# Altium footprint library WateringSystem_Library.PcbLib: 41 footprints (part 2 of 3)
Each footprint in its own frame and in the unit in brackets; x right, y up, seen from the top. Pads: shape width x height; smd on the part's side, far side on the other; paste and mask are expansions set on the pad; w line width, h text height; cw(c..) or ccw(c..) is an arc to the next point about the centre after c.
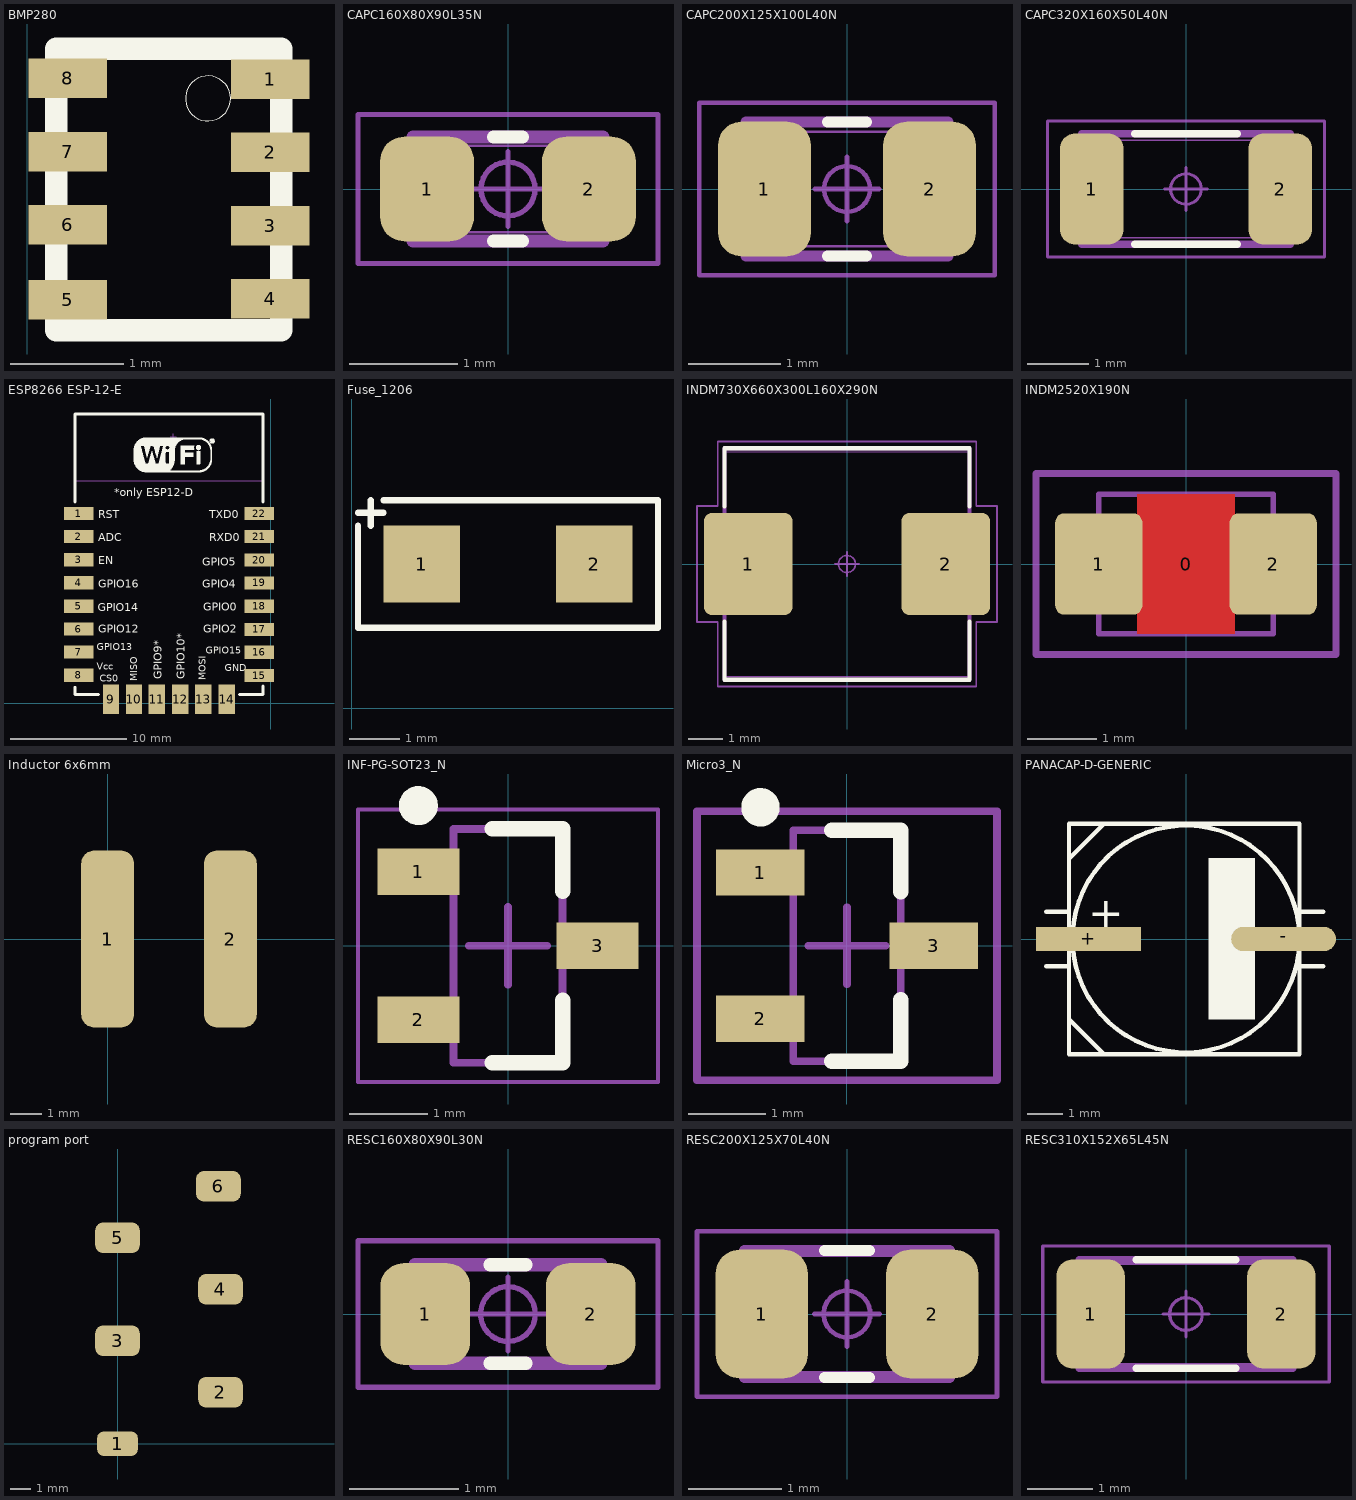
[diagram p1: the footprints below, top view; thin cyan lines are the x and y axes]

## BMP280 [mm]
pads (8):
  rect 0.7x0.35 smd: 1(2.156,2.458) 2(2.156,1.808) 3(2.156,1.158) 4(2.156,0.508) 5(0.358,0.501) 6(0.358,1.164) 7(0.358,1.814) 8(0.358,2.464)
Top Overlay:
  circle w0.01: c1.603,2.286 r0.2
  lines w0.2: 0.254,0.229 2.254,0.229 2.254,2.729 0.254,2.729 0.254,0.229

## CAPC160X80X90L35N [mm] "Capacitor, Chip; 0603, 1.60 mm L X 0.80 mm W X 0.90 mm H body"
height 0.9
pads (2):
  rrect51% 0.87x0.97 smd: 1(-0.75,0) 2(0.75,0)
Top Overlay:
  lines w0.12: -0.135,-0.48 0.135,-0.48 ; -0.135,0.48 0.135,0.48
Mechanical 11:
  lines w0.12: -0.88,-0.48 0.88,-0.48 0.88,0.48 -0.88,0.48 -0.88,-0.48
Mechanical 12:
  lines w0.025: -0.8,-0.4 0.8,-0.4 ; -0.8,-0.4 -0.8,0.4 ; -0.8,-0.4 -0.8,0.4 ; -0.8,-0.4 -0.45,-0.4 -0.45,0.4 -0.8,0.4 ; -0.8,0.4 0.8,0.4 ; 0.8,-0.4 0.8,0.4 ; 0.8,-0.4 0.45,-0.4 0.45,0.4 0.8,0.4 ; 0.8,-0.4 0.8,0.4
Mechanical 15:
  circle w0.05: c0,0 r0.25
  lines w0.05: -0.345,0 0.345,0 ; 0,-0.345 0,0.345 ; -1.39,-0.69 1.39,-0.69 1.39,0.69 -1.39,0.69 -1.39,-0.69
3D body: height 0.25, standoff 0, extent 0,0 0.254,0.254
3D body "CAPC160X80X90L35.STEP": height 0.9, standoff 0, extent -0.8,-0.4 0.8,0.4

## CAPC200X125X100L40N [mm] "0805"
pads (2):
  rrect50% 1.01x1.47 smd: 1(-0.9,0) 2(0.9,0)
Top Overlay:
  lines w0.12: -0.215,-0.73 0.215,-0.73 ; -0.215,0.73 0.215,0.73
Mechanical 11:
  lines w0.12: -1.1,-0.73 -1.1,0.73 1.1,0.73 1.1,-0.73 -1.1,-0.73
Mechanical 12:
  lines w0.025: -1,-0.625 -0.6,-0.625 -0.6,0.625 -1,0.625 ; -1,-0.625 -1,0.625 ; -1,-0.625 -1,0.625 ; -1,-0.625 1,-0.625 ; -1,0.625 1,0.625 ; 1,-0.625 1,0.625 ; 1,-0.625 0.6,-0.625 0.6,0.625 1,0.625 ; 1,-0.625 1,0.625
Mechanical 15:
  circle w0.05: c0,0 r0.25
  lines w0.05: -0.35,0 0.35,0 ; 0,-0.35 0,0.35 ; -1.61,-0.94 -1.61,0.94 1.61,0.94 1.61,-0.94 -1.61,-0.94
3D body "CAPC200X125X100L40.STEP": height 1, standoff 0, extent -1,-0.625 1,0.625
3D body: height 0.25, standoff 0, extent 0,0 0.254,0.254

## CAPC320X160X50L40N [mm] "Capacitor, Chip; 1206, 3.20 mm L X 1.60 mm W X 0.50 mm H body"
height 0.5
pads (2):
  rrect48% 1.04x1.82 smd: 1(-1.54,0) 2(1.54,0)
Top Overlay:
  lines w0.12: -0.84,-0.9 0.84,-0.9 ; -0.84,0.9 0.84,0.9
Mechanical 11:
  lines w0.12: -1.7,-0.9 1.7,-0.9 1.7,0.9 -1.7,0.9 -1.7,-0.9
Mechanical 12:
  lines w0.025: -1.6,-0.8 1.6,-0.8 ; -1.6,-0.8 -1.6,0.8 ; -1.6,-0.8 -1.6,0.8 ; -1.6,-0.8 -1.2,-0.8 -1.2,0.8 -1.6,0.8 ; -1.6,0.8 1.6,0.8 ; 1.6,-0.8 1.6,0.8 ; 1.6,-0.8 1.2,-0.8 1.2,0.8 1.6,0.8 ; 1.6,-0.8 1.6,0.8
Mechanical 15:
  circle w0.05: c0,0 r0.25
  lines w0.05: -0.35,0 0.35,0 ; 0,-0.35 0,0.35 ; -2.26,-1.11 2.26,-1.11 2.26,1.11 -2.26,1.11 -2.26,-1.11
3D body: height 0.25, standoff 0, extent 0,0 0.254,0.254
3D body "CAPC320X160X50L40.STEP": height 0.5, standoff 0, extent -1.6,-0.8 1.6,0.8

## ESP8266 ESP-12-E [mil]
pads (22):
  rect 100x45 smd: 1(-653,646) 2(-653,568) 3(-653,489) 4(-653,411) 5(-653,331) 6(-653,253) 7(-653,175) 8(-653,96) 15(-38,95) 16(-38,174) 17(-38,252) 18(-39,331) 19(-39,410) 20(-39,488) 21(-39,568) 22(-39,646)
  rect 55x100 smd: 9(-543,14) 10(-465,14) 11(-387,14) 12(-307,14) 13(-229,14) 14(-149,14)
Top Overlay:
  drawing of 1267 lines, arcs and shapes, not listed
  text "*only ESP12-D" at -531.5,704.72 h27.56
  text "TXD0" at -208.66,629.92 h27.56
  text "RXD0" at -208.66,551.18 h27.56
  text "GPIO5" at -232.28,468.5 h27.56
  text "GPIO4" at -232.28,393.7 h27.56
  text "GPIO0" at -228.35,314.96 h27.56
  text "GPIO2" at -228.35,240.16 h27.56
  text "GPIO15" at -220.47,169.29 h23.62
  text "GND" at -155.3,109.17 h23.62
  text "MOSI" at -220.47,78.74 h23.62
  text "GPIO10*" at -291.34,82.68 h27.56
  text "GPIO9*" at -370.08,82.68 h27.56
  text "CS0" at -580.5,73.74 h23.62
  text "Vcc" at -590.55,114.17 h23.62
  text "GPIO13" at -590.55,181.1 h23.62
  text "GPIO12" at -586.61,240.16 h27.56
  text "GPIO14" at -588.37,313.9 h27.56
  text "GPIO16" at -586.61,393.7 h27.56
  text "EN" at -587,474 h27.56
  text "ADC" at -586.61,551.18 h27.56
  text "RST" at -586.61,629.92 h27.56
  text "MISO" at -452.76,74.8 h23.62
Mechanical 13:
  lines w2: -662.96,757.97 -22.96,757.97
Mechanical 15:
  lines w3.94: -341,907.92 -321,907.92 ; -331,897.92 -331,917.92
3D body "User Library-ESP_12_E.STEP": height 85.7, standoff -1.17, extent -661,36.56 -31.08,981.44

## Fuse_1206 [mil]
pads (2):
  rect 60x60 smd: 1(55,113) 2(190,113)
Top Overlay:
  lines w5: 5,143 5,63 240,63 240,163 25,163 ; 5,153 25,153 ; 15,143 15,163

## INDM730X660X300L160X290N [mm] "Inductor, Molded Body; 7.20 mm L X 6.60 mm W X 3.00 mm H body"
height 3
pads (2):
  rrect19% 2.61x3.01 smd: 1(-2.9,0) 2(2.9,0)
Top Overlay:
  lines w0.12: -3.6,-1.685 -3.6,-3.4 3.6,-3.4 3.6,-1.685 ; -3.6,1.685 -3.6,3.4 3.6,3.4 3.6,1.685
Mechanical 11:
  lines w0.12: -3.6,-3.4 -3.6,3.4 3.6,3.4 3.6,-3.4 -3.6,-3.4
Mechanical 12:
  lines w0.025: -3.65,-1.45 -2.05,-1.45 -2.05,1.45 -3.65,1.45 -3.65,-1.45 ; -3.6,-3.3 -3.6,3.3 3.6,3.3 3.6,-3.3 -3.6,-3.3 ; 2.05,-1.45 2.05,1.45 3.65,1.45 3.65,-1.45 2.05,-1.45
Mechanical 15:
  circle w0.05: c0,0 r0.25
  lines w0.05: -0.35,0 0.35,0 ; 0,-0.35 0,0.35 ; -4.405,-1.705 -4.405,1.705 -3.8,1.705 -3.8,3.6 3.8,3.6 3.8,1.705 4.405,1.705 4.405,-1.705 3.8,-1.705 3.8,-3.6 -3.8,-3.6 -3.8,-1.705 -4.405,-1.705
3D body: height 0.25, standoff 0, extent 0,0 0.254,0.254
3D body "INDM730X660X300L160X290.STEP": height 3, standoff 0, extent -3.65,-3.3 3.65,3.3

## INDM2520X190N [mm]
pads (3):
  round 0.508 on Mech15: 0(0,0)
  rrect20% 1.25x1.45 smd: 1(-1.25,0) 2(1.25,0)
Top Layer:
  pour cut-out: -0.7,1 0.7,1 0.7,-1 -0.7,-1
Mechanical 13:
  lines w0.076: -1.25,-1 1.25,-1 1.25,1 -1.25,1 -1.25,-1
Mechanical 15:
  lines w0.1: -2.15,-1.3 2.15,-1.3 2.15,1.3 -2.15,1.3 -2.15,-1.3
3D body "INDM2520X190N.STEP": height 1.79, standoff -0.01, extent -1.25,-1 1.25,1

## Inductor 6x6mm [mm]
pads (2):
  rrect50% 1.7x5.7 smd: 1(0,0) 2(3.95,0)

## INF-PG-SOT23_N [mm]
pads (3):
  rect 1.05x0.6 smd: 1(-1.15,0.95) 2(-1.15,-0.95) 3(1.15,0)
Top Overlay:
  circle w0.25: c-1.15,1.8 r0.125
  lines w0.2: -0.2,-1.5 0.7,-1.5 0.7,-0.7 ; -0.2,1.5 0.7,1.5 0.7,0.7
Mechanical 13:
  lines w0.1: -0.7,-1.5 0.7,-1.5 0.7,1.5 -0.7,1.5 -0.7,-1.5
Mechanical 15:
  lines w0.05: -1.925,-1.75 1.925,-1.75 1.925,1.75 -1.925,1.75 -1.925,-1.75
  lines w0.1: -0.5,0 0.5,0 ; 0,-0.5 0,0.5
3D body: height 1.1, standoff 0.1, extent -0.7,-1.5 0.7,1.5

## Micro3_N [mm]
pads (3):
  rect 1.15x0.6 smd: 1(-1.125,0.95) 2(-1.125,-0.95) 3(1.125,0)
Top Overlay:
  circle w0.25: c-1.125,1.8 r0.125
  lines w0.2: -0.2,-1.5 0.7,-1.5 0.7,-0.7 ; -0.2,1.5 0.7,1.5 0.7,0.7
Mechanical 13:
  lines w0.1: -0.7,-1.5 0.7,-1.5 0.7,1.5 -0.7,1.5 -0.7,-1.5
Mechanical 15:
  lines w0.1: -0.5,0 0.5,0 ; 0,-0.5 0,0.5 ; -1.95,-1.75 1.95,-1.75 1.95,1.75 -1.95,1.75 -1.95,-1.75
3D body: height 1.12, standoff 0, extent -0.7,-1.5 0.7,1.5

## PANACAP-D-GENERIC [mm]
pads (2):
  rect 3x0.7 smd: +(-2.794,0)
  oval 3x0.7 smd: -(2.794,0)
Top Overlay:
  circle w0.127: c0,0 r3.25
  rectangle: 0.646,-2.3 1.971,2.325
  lines w0.127: -4,-0.775 -3.35,-0.775 ; -4,0.775 -3.35,0.775 ; -3.35,-2.65 -3.35,0 ; -3.35,-2.3 -2.35,-3.3 ; -3.35,2.3 -2.35,3.3 ; 3.25,-0.775 3.925,-0.775 ; 3.25,0.775 3.925,0.775 ; -3.35,-3.3 3.25,-3.3 3.25,0 3.25,3.3 -3.35,3.3 -3.35,0 ; -3.35,-3.3 -3.35,-3.3 ; -3.35,-3.3 -3.35,0
  text "+" at -2.8,0.325 h0.89
3D body "User Library-ALU-D.STEP": height 5.4, standoff 0, extent -3.5,-3.3 3.5,3.3

## program port [mm]
pads (6):
  rrect50% 2x1.2 smd: 1(0,0)
  rrect50% 2.2x1.5 smd: 2(5.08,2.54) 3(0,5.08) 4(5.08,7.62) 5(0,10.16) 6(4.98,12.7)

## RESC160X80X90L30N [mm] "Resistor, Chip; 0603, 1.60 mm L X 0.80 mm W X 0.90 mm H body"
height 0.9
pads (2):
  rrect51% 0.82x0.93 smd: 1(-0.755,0) 2(0.755,0)
Top Overlay:
  lines w0.12: -0.165,-0.45 0.165,-0.45 ; -0.165,0.45 0.165,0.45
Mechanical 11:
  lines w0.12: -0.85,-0.45 -0.85,0.45 0.85,0.45 0.85,-0.45 -0.85,-0.45
Mechanical 12:
  lines w0.025: -0.8,-0.4 -0.5,-0.4 -0.5,0.4 -0.8,0.4 ; -0.8,-0.4 -0.8,0.4 ; -0.8,-0.4 -0.8,0.4 ; -0.8,-0.4 0.8,-0.4 ; -0.8,0.4 0.8,0.4 ; 0.8,-0.4 0.8,0.4 ; 0.8,-0.4 0.5,-0.4 0.5,0.4 0.8,0.4 ; 0.8,-0.4 0.8,0.4
Mechanical 15:
  circle w0.05: c0,0 r0.25
  lines w0.05: -0.335,0 0.335,0 ; 0,-0.335 0,0.335 ; -1.37,-0.67 -1.37,0.67 1.37,0.67 1.37,-0.67 -1.37,-0.67
3D body "RESC160X80X90L30.STEP": height 0.9, standoff 0, extent -0.8,-0.4 0.8,0.4

## RESC200X125X70L40N [mm] "Resistor, Chip; 0805, 2.00 mm L X 1.25 mm W X 0.70 mm H body"
height 0.7
pads (2):
  rrect51% 0.99x1.38 smd: 1(-0.915,0) 2(0.915,0)
Top Overlay:
  lines w0.12: -0.24,-0.68 0.24,-0.68 ; -0.24,0.68 0.24,0.68
Mechanical 11:
  lines w0.12: -1.1,-0.68 -1.1,0.68 1.1,0.68 1.1,-0.68 -1.1,-0.68
Mechanical 12:
  lines w0.025: -1,-0.625 -0.6,-0.625 -0.6,0.625 -1,0.625 ; -1,-0.625 -1,0.625 ; -1,-0.625 -1,0.625 ; -1,-0.625 1,-0.625 ; -1,0.625 1,0.625 ; 1,-0.625 1,0.625 ; 1,-0.625 0.6,-0.625 0.6,0.625 1,0.625 ; 1,-0.625 1,0.625
Mechanical 15:
  circle w0.05: c0,0 r0.25
  lines w0.05: -0.35,0 0.35,0 ; 0,-0.35 0,0.35 ; -1.61,-0.89 -1.61,0.89 1.61,0.89 1.61,-0.89 -1.61,-0.89
3D body "RESC200X125X70L40.STEP": height 0.7, standoff 0, extent -1,-0.625 1,0.625

## RESC310X152X65L45N [mm] "Resistor, Chip; 1206, 3.10 mm L X 1.525 mm W X 0.65 mm H body"
height 0.65
pads (2):
  rrect48% 1.05x1.67 smd: 1(-1.46,0) 2(1.46,0)
Top Overlay:
  lines w0.12: -0.755,-0.83 0.755,-0.83 ; -0.755,0.83 0.755,0.83
Mechanical 11:
  lines w0.12: -1.63,-0.83 1.63,-0.83 1.63,0.83 -1.63,0.83 -1.63,-0.83
Mechanical 12:
  lines w0.025: -1.55,-0.763 1.55,-0.763 ; -1.55,-0.763 -1.55,0.763 ; -1.55,-0.763 -1.55,0.763 ; -1.55,-0.763 -1.1,-0.763 -1.1,0.763 -1.55,0.763 ; -1.55,0.763 1.55,0.763 ; 1.55,-0.763 1.55,0.763 ; 1.55,-0.763 1.1,-0.763 1.1,0.763 1.55,0.763 ; 1.55,-0.763 1.55,0.763
Mechanical 15:
  circle w0.05: c0,0 r0.25
  lines w0.05: -0.35,0 0.35,0 ; 0,-0.35 0,0.35 ; -2.19,-1.04 2.19,-1.04 2.19,1.04 -2.19,1.04 -2.19,-1.04
3D body "RESC310X152X65L45.STEP": height 0.65, standoff 0, extent -1.55,-0.762 1.55,0.763